# Altium footprint library AD8232.PcbLib: 1 footprints
Each footprint in its own frame and in the unit in brackets; x right, y up, seen from the top. Pads: shape width x height; smd on the part's side, far side on the other; paste and mask are expansions set on the pad; w line width, h text height; cw(c..) or ccw(c..) is an arc to the next point about the centre after c.
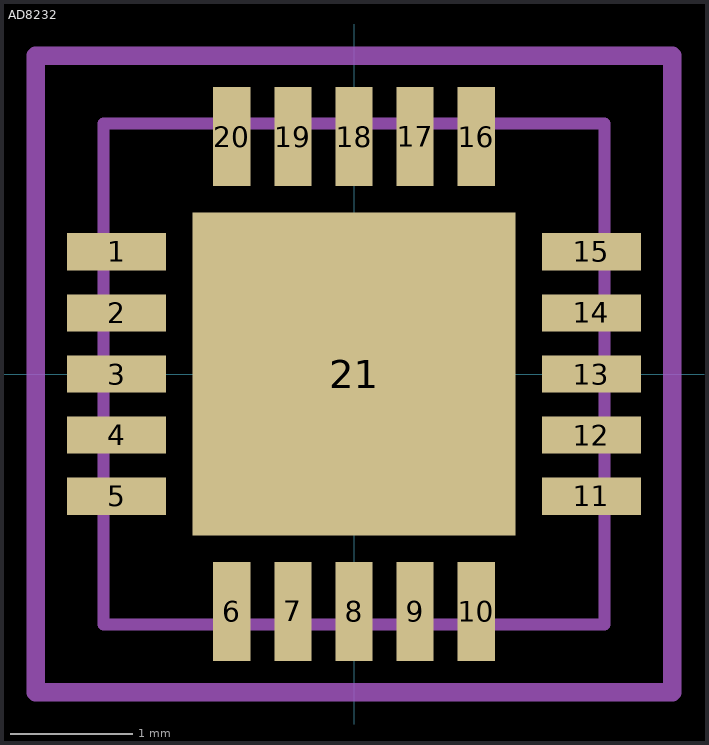
[diagram p0: the footprint, top view; thin cyan lines are the x and y axes]

## AD8232 [mil] "LFCSP_WQ 4x4MM JDEC"
pads (21):
  rect 32x12 smd mask+5: 1(-76.5,39.37) 2(-76.5,19.68) 3(-76.5,0) 4(-76.5,-19.68) 5(-76.5,-39.37) 11(76.5,-39.37) 12(76.5,-19.68) 13(76.5,0) 14(76.5,19.68) 15(76.5,39.37)
  rect 12x32 smd mask+5: 6(-39.37,-76.5) 7(-19.68,-76.5) 8(0,-76.5) 9(19.68,-76.5) 10(39.37,-76.5) 16(39.37,76.5) 17(19.68,76.5) 18(0,76.5) 19(-19.68,76.5) 20(-39.37,76.5)
  rect 104x104 smd mask-51.5: 21(0,0)
Mechanical 13:
  lines w3.94: -80.71,-80.71 -80.71,80.71 80.71,80.71 80.71,-80.71 -80.71,-80.71
Mechanical 15:
  lines w6: -102.5,-102.5 102.5,-102.5 102.5,102.5 -102.5,102.5 -102.5,-102.5
3D body: height 27.56, standoff 0, extent -80.71,-80.71 80.71,80.71